# Altium footprint library 0878310641.PcbLib: 1 footprints
Each footprint in its own frame and in the unit in brackets; x right, y up, seen from the top. Pads: shape width x height; smd on the part's side, far side on the other; paste and mask are expansions set on the pad; w line width, h text height; cw(c..) or ccw(c..) is an arc to the next point about the centre after c.
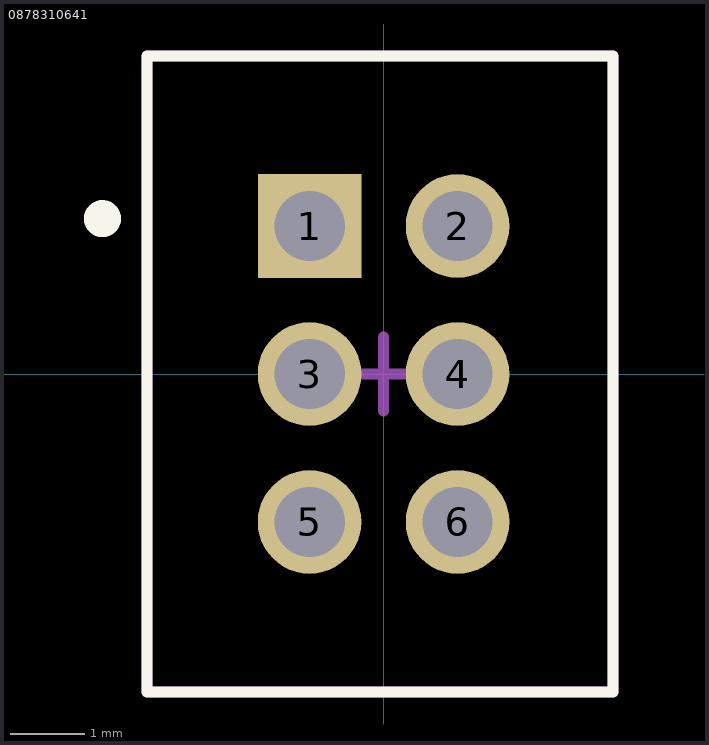
[diagram p0: the footprint, top view; thin cyan lines are the x and y axes]

## 0878310641 [mm]
pads (6):
  rect 1.4x1.4 hole 0.95 mask+0.051: 1(-1,2)
  round 1.4 hole 0.95 mask+0.051: 2(1,2) 3(-1,0) 4(1,0) 5(-1,-2) 6(1,-2)
Top Overlay:
  circle w0.3: c-3.8,2.1 r0.1
  lines w0.15: -3.2,-4.3 -3.2,4.3 3.1,4.3 3.1,-4.3 -3.2,-4.3
Mechanical 13:
  lines w0.15: -3.2,-4.3 -3.2,4.3 3.1,4.3 3.1,-4.3 -3.2,-4.3
Mechanical 15:
  lines w0.15: -0.5,0 0,0 ; 0,0 0,-0.5 0,0 ; 0,0 0.5,0 0,0 ; 0,0 0,0.5 0,0
3D body "878310641.stp": height 6.41, standoff -2.49, extent -3.15,-4.325 3.15,4.325